# EAGLE library part XM125 (library XM125)
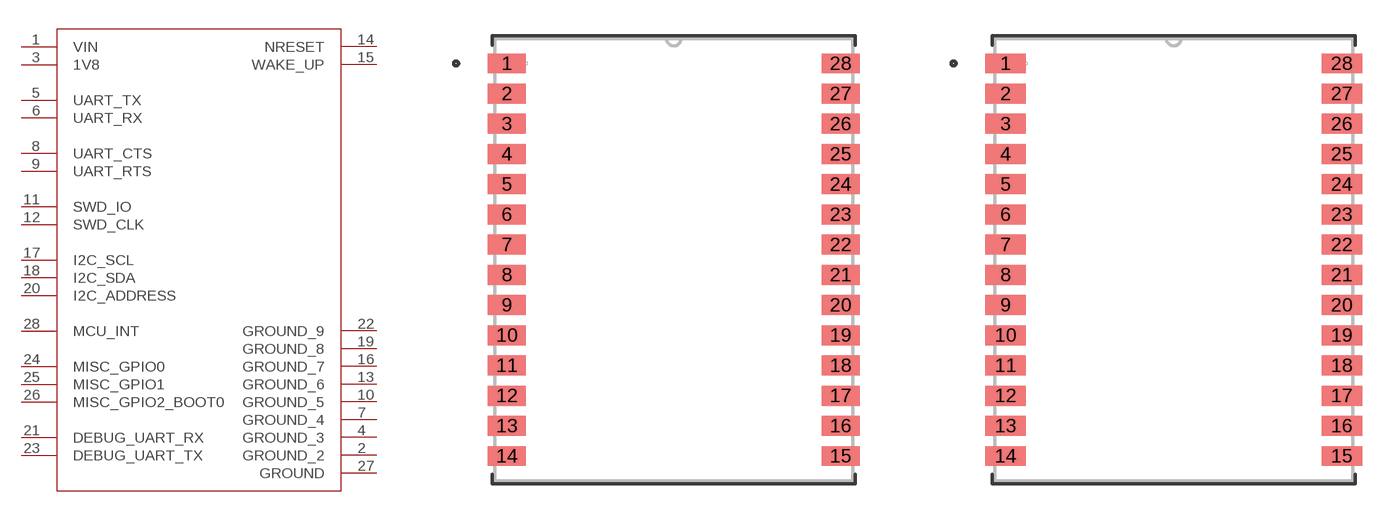
[diagram p0: symbol with the pads of XM125_ACC; footprints XM125_ACC, XM125_ACC-M]

Designator prefix U

## XM125 (COPYRIGHT: Copyright (C) 2023 Ultra Librarian. All rights reserved.; MANUFACTURER_PART_NUMBER: XM125; MFR_NAME: Acconeer; TYPE: RF)  [XM125_ACC]
1  VIN  pwr
2  GROUND_2  pas
3  1V8  pwr
4  GROUND_3  pas
5  UART_TX  pas
6  UART_RX  pas
7  GROUND_4  pas
8  UART_CTS  pas
9  UART_RTS  pas
10  GROUND_5  pas
11  SWD_IO  pas
12  SWD_CLK  pas
13  GROUND_6  pas
14  NRESET  pas
15  WAKE_UP  pas
16  GROUND_7  pas
17  I2C_SCL  pas
18  I2C_SDA  pas
19  GROUND_8  pas
20  I2C_ADDRESS  pas
21  DEBUG_UART_RX  pas
22  GROUND_9  pas
23  DEBUG_UART_TX  pas
24  MISC_GPIO0
25  MISC_GPIO1
26  MISC_GPIO2_BOOT0
27  GROUND  pas
28  MCU_INT  pas

## XM125XM125_ACC-M (COPYRIGHT: Copyright (C) 2023 Ultra Librarian. All rights reserved.; MANUFACTURER_PART_NUMBER: XM125; MFR_NAME: Acconeer; TYPE: RF)  [XM125_ACC-M]
Pads as for XM125_ACC

## XM125XM125_ACC-L  [XM125_ACC-L]
Pads as for XM125_ACC

## Footprint XM125_ACC (pad centres in mm)
smd 1.6 x 0.838: 1 -7.01,8.255; 2 -7.01,6.985; 3 -7.01,5.715; 4 -7.01,4.445; 5 -7.01,3.175; 6 -7.01,1.905; 7 -7.01,0.635; 8 -7.01,-0.635; 9 -7.01,-1.905; 10 -7.01,-3.175; 11 -7.01,-4.445; 12 -7.01,-5.715; 13 -7.01,-6.985; 14 -7.01,-8.255; 15 7.01,-8.255; 16 7.01,-6.985; 17 7.01,-5.715; 18 7.01,-4.445; 19 7.01,-3.175; 20 7.01,-1.905; 21 7.01,-0.635; 22 7.01,0.635; 23 7.01,1.905; 24 7.01,3.175; 25 7.01,4.445; 26 7.01,5.715; 27 7.01,6.985; 28 7.01,8.255

## Footprint XM125_ACC-M (pad centres in mm)
smd 1.702 x 0.838: 1 -7.061,8.255; 2 -7.061,6.985; 3 -7.061,5.715; 4 -7.061,4.445; 5 -7.061,3.175; 6 -7.061,1.905; 7 -7.061,0.635; 8 -7.061,-0.635; 9 -7.061,-1.905; 10 -7.061,-3.175; 11 -7.061,-4.445; 12 -7.061,-5.715; 13 -7.061,-6.985; 14 -7.061,-8.255; 15 7.061,-8.255; 16 7.061,-6.985; 17 7.061,-5.715; 18 7.061,-4.445; 19 7.061,-3.175; 20 7.061,-1.905; 21 7.061,-0.635; 22 7.061,0.635; 23 7.061,1.905; 24 7.061,3.175; 25 7.061,4.445; 26 7.061,5.715; 27 7.061,6.985; 28 7.061,8.255

## Footprint XM125_ACC-L (pad centres in mm)
smd 1.499 x 0.838: 1 -6.96,8.255; 2 -6.96,6.985; 3 -6.96,5.715; 4 -6.96,4.445; 5 -6.96,3.175; 6 -6.96,1.905; 7 -6.96,0.635; 8 -6.96,-0.635; 9 -6.96,-1.905; 10 -6.96,-3.175; 11 -6.96,-4.445; 12 -6.96,-5.715; 13 -6.96,-6.985; 14 -6.96,-8.255; 15 6.96,-8.255; 16 6.96,-6.985; 17 6.96,-5.715; 18 6.96,-4.445; 19 6.96,-3.175; 20 6.96,-1.905; 21 6.96,-0.635; 22 6.96,0.635; 23 6.96,1.905; 24 6.96,3.175; 25 6.96,4.445; 26 6.96,5.715; 27 6.96,6.985; 28 6.96,8.255